# EAGLE library part TQ2 (library panasonic)
5 mm Low profile, 2 Form C and 2 A (surface mount type) relays
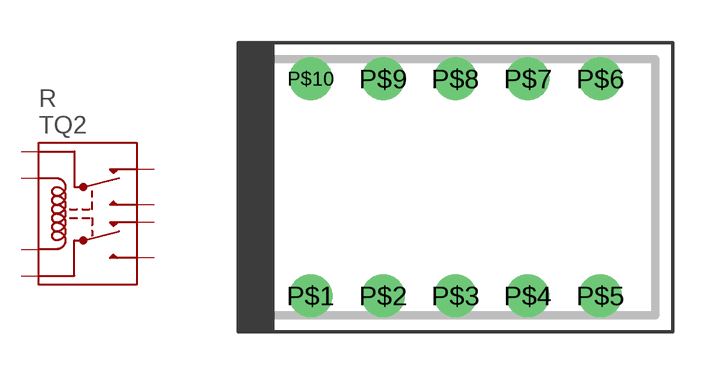
[diagram p0: symbol with the pads of TQ2; footprint TQ2]

Designator prefix R

## TQ2-12V  [TQ2]
P$1  COIL_P
P$2  NC1
P$3  COM1
P$4  NO1
P$7  NO2
P$8  COM2
P$9  NC2
P$10  COIL_N

## Footprint TQ2 (pad centres in mm)
drill 1: P$1 -5.08,-3.81; P$2 -2.54,-3.81; P$3 0,-3.81; P$4 2.54,-3.81; P$5 5.08,-3.81; P$6 5.08,3.81; P$7 2.54,3.81; P$8 0,3.81; P$9 -2.54,3.81; P$10 -5.08,3.81